# Altium schematic symbol library WPME-CDIP.SchLib: 6 symbols
Pins are listed as number, name and electrical type; pins without a type are passive.

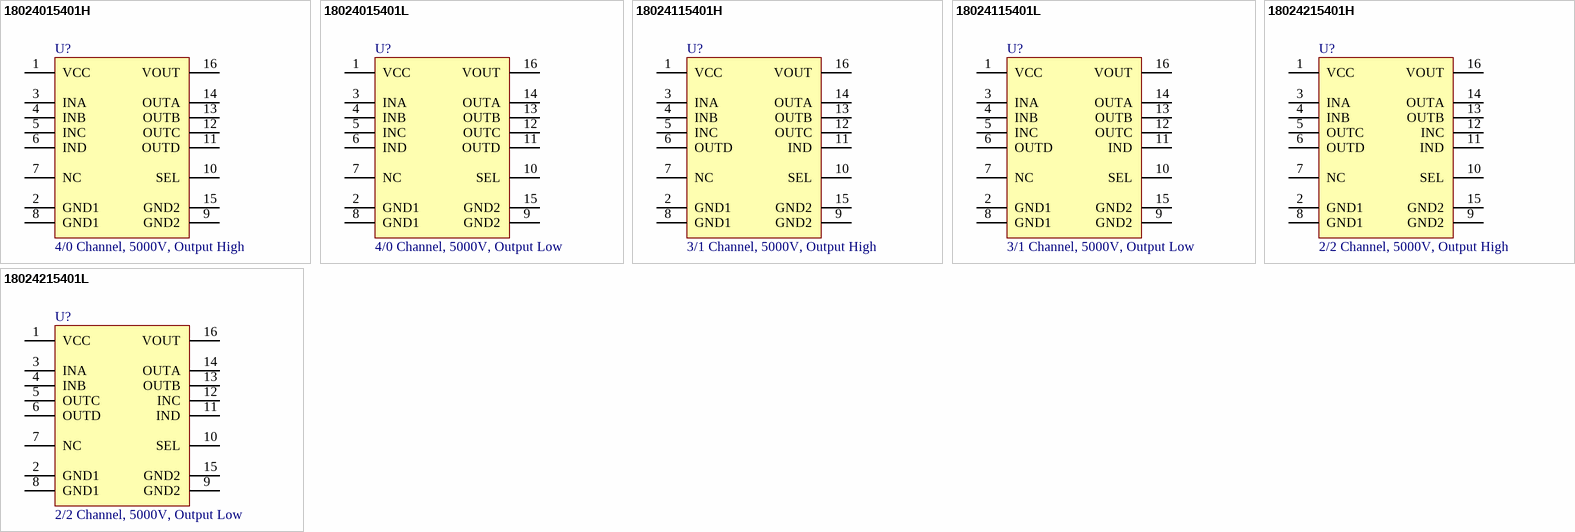
[diagram p0: symbols 18024015401H to 18024215401L]

## 18024015401H
designator U?, comment 4/0 Channel, 5000V, Output High
WPME-CDIP Capacitive Digital Isolator Powered, SMT, SOIC-16WB, 4/0 Channel, 5000V, Output High; Manufacturer Part Number: 18024015401H; Manufacturer: Wurth Elektronik; Common Mode Transient Immunity: 150kV/us; Data Rate: 100Mbps; Isolation Voltage: 5000V (RMS); Operating Supply Voltage Min: 3.15V; Operating Supply Voltage Max: 5.5V; Propagation Delay: 10ns; Category: Digital Isolator; Match Code: WPME-CDIP; ComponentLink1Description: Website Link; ComponentLink1URL: https://www.we-online.com/redexpert/article/18024015401H?ad; ComponentLink2Description: Datasheet Link; ComponentLink2URL: https://www.we-online.com/redexpert/spec/18024015401H?ad; Mount: Surface Mount; Min Operating Temperature: -40°C; Max Operating Temperature: 125°C; Packaging: Tape and Reel; Case/Size Code: SOIC-16WB; Length: 10.3mm; Width: 7.5mm; Height: 2.5mm; Channel Configuration: 4/0; Default Output: High
footprint WPME-CDIP_SOIC-16WB
pins: 1 VCC, 2 GND1, 3 INA, 4 INB, 5 INC, 6 IND, 7 NC, 8 GND1, 9 GND2, 10 SEL, 11 OUTD, 12 OUTC, 13 OUTB, 14 OUTA, 15 GND2, 16 VOUT

## 18024015401L
designator U?, comment 4/0 Channel, 5000V, Output Low
WPME-CDIP Capacitive Digital Isolator Powered, SMT, SOIC-16WB, 4/0 Channel, 5000V, Output Low; Manufacturer Part Number: 18024015401L; Manufacturer: Wurth Elektronik; Common Mode Transient Immunity: 150kV/us; Data Rate: 100Mbps; Isolation Voltage: 5000V (RMS); Operating Supply Voltage Min: 3.15V; Operating Supply Voltage Max: 5.5V; Propagation Delay: 10ns; Category: Digital Isolator; Match Code: WPME-CDIP; ComponentLink1Description: Website Link; ComponentLink1URL: https://www.we-online.com/redexpert/article/18024015401L?ad; ComponentLink2Description: Datasheet Link; ComponentLink2URL: https://www.we-online.com/redexpert/spec/18024015401L?ad; Mount: Surface Mount; Min Operating Temperature: -40°C; Max Operating Temperature: 125°C; Packaging: Tape and Reel; Case/Size Code: SOIC-16WB; Length: 10.3mm; Width: 7.5mm; Height: 2.5mm; Channel Configuration: 4/0; Default Output: Low
footprint WPME-CDIP_SOIC-16WB
pins: 1 VCC, 2 GND1, 3 INA, 4 INB, 5 INC, 6 IND, 7 NC, 8 GND1, 9 GND2, 10 SEL, 11 OUTD, 12 OUTC, 13 OUTB, 14 OUTA, 15 GND2, 16 VOUT

## 18024115401H
designator U?, comment 3/1 Channel, 5000V, Output High
WPME-CDIP Capacitive Digital Isolator Powered, SMT, SOIC-16WB, 3/1 Channel, 5000V, Output High; Manufacturer Part Number: 18024115401H; Manufacturer: Wurth Elektronik; Common Mode Transient Immunity: 150kV/us; Data Rate: 100Mbps; Isolation Voltage: 5000V (RMS); Operating Supply Voltage Min: 3.15V; Operating Supply Voltage Max: 5.5V; Propagation Delay: 10ns; Category: Digital Isolator; Match Code: WPME-CDIP; ComponentLink1Description: Website Link; ComponentLink1URL: https://www.we-online.com/redexpert/article/18024115401H?ad; ComponentLink2Description: Datasheet Link; ComponentLink2URL: https://www.we-online.com/redexpert/spec/18024115401H?ad; Mount: Surface Mount; Min Operating Temperature: -40°C; Max Operating Temperature: 125°C; Packaging: Tape and Reel; Case/Size Code: SOIC-16WB; Length: 10.3mm; Width: 7.5mm; Height: 2.5mm; Channel Configuration: 3/1; Default Output: High
footprint WPME-CDIP_SOIC-16WB
pins: 1 VCC, 2 GND1, 3 INA, 4 INB, 5 INC, 6 OUTD, 7 NC, 8 GND1, 9 GND2, 10 SEL, 11 IND, 12 OUTC, 13 OUTB, 14 OUTA, 15 GND2, 16 VOUT

## 18024115401L
designator U?, comment 3/1 Channel, 5000V, Output Low
WPME-CDIP Capacitive Digital Isolator Powered, SMT, SOIC-16WB, 3/1 Channel, 5000V, Output Low; Manufacturer Part Number: 18024115401L; Manufacturer: Wurth Elektronik; Common Mode Transient Immunity: 150kV/us; Data Rate: 100Mbps; Isolation Voltage: 5000V (RMS); Operating Supply Voltage Min: 3.15V; Operating Supply Voltage Max: 5.5V; Propagation Delay: 10ns; Category: Digital Isolator; Match Code: WPME-CDIP; ComponentLink1Description: Website Link; ComponentLink1URL: https://www.we-online.com/redexpert/article/18024115401L?ad; ComponentLink2Description: Datasheet Link; ComponentLink2URL: https://www.we-online.com/redexpert/spec/18024115401L?ad; Mount: Surface Mount; Min Operating Temperature: -40°C; Max Operating Temperature: 125°C; Packaging: Tape and Reel; Case/Size Code: SOIC-16WB; Length: 10.3mm; Width: 7.5mm; Height: 2.5mm; Channel Configuration: 3/1; Default Output: Low
footprint WPME-CDIP_SOIC-16WB
pins: 1 VCC, 2 GND1, 3 INA, 4 INB, 5 INC, 6 OUTD, 7 NC, 8 GND1, 9 GND2, 10 SEL, 11 IND, 12 OUTC, 13 OUTB, 14 OUTA, 15 GND2, 16 VOUT

## 18024215401H
designator U?, comment 2/2 Channel, 5000V, Output High
WPME-CDIP Capacitive Digital Isolator Powered, SMT, SOIC-16WB, 2/2 Channel, 5000V, Output High; Manufacturer Part Number: 18024215401H; Manufacturer: Wurth Elektronik; Common Mode Transient Immunity: 150kV/us; Data Rate: 100Mbps; Isolation Voltage: 5000V (RMS); Operating Supply Voltage Min: 3.15V; Operating Supply Voltage Max: 5.5V; Propagation Delay: 10ns; Category: Digital Isolator; Match Code: WPME-CDIP; ComponentLink1Description: Website Link; ComponentLink1URL: https://www.we-online.com/redexpert/article/18024215401H?ad; ComponentLink2Description: Datasheet Link; ComponentLink2URL: https://www.we-online.com/redexpert/spec/18024215401H?ad; Mount: Surface Mount; Min Operating Temperature: -40°C; Max Operating Temperature: 125°C; Packaging: Tape and Reel; Case/Size Code: SOIC-16WB; Length: 10.3mm; Width: 7.5mm; Height: 2.5mm; Channel Configuration: 2/2; Default Output: High
footprint WPME-CDIP_SOIC-16WB
pins: 1 VCC, 2 GND1, 3 INA, 4 INB, 5 OUTC, 6 OUTD, 7 NC, 8 GND1, 9 GND2, 10 SEL, 11 IND, 12 INC, 13 OUTB, 14 OUTA, 15 GND2, 16 VOUT

## 18024215401L
designator U?, comment 2/2 Channel, 5000V, Output Low
WPME-CDIP Capacitive Digital Isolator Powered, SMT, SOIC-16WB, 2/2 Channel, 5000V, Output Low; Manufacturer Part Number: 18024215401L; Manufacturer: Wurth Elektronik; Common Mode Transient Immunity: 150kV/us; Data Rate: 100Mbps; Isolation Voltage: 5000V (RMS); Operating Supply Voltage Min: 3.15V; Operating Supply Voltage Max: 5.5V; Propagation Delay: 10ns; Category: Digital Isolator; Match Code: WPME-CDIP; ComponentLink1Description: Website Link; ComponentLink1URL: https://www.we-online.com/redexpert/article/18024215401L?ad; ComponentLink2Description: Datasheet Link; ComponentLink2URL: https://www.we-online.com/redexpert/spec/18024215401L?ad; Mount: Surface Mount; Min Operating Temperature: -40°C; Max Operating Temperature: 125°C; Packaging: Tape and Reel; Case/Size Code: SOIC-16WB; Length: 10.3mm; Width: 7.5mm; Height: 2.5mm; Channel Configuration: 2/2; Default Output: Low
footprint WPME-CDIP_SOIC-16WB
pins: 1 VCC, 2 GND1, 3 INA, 4 INB, 5 OUTC, 6 OUTD, 7 NC, 8 GND1, 9 GND2, 10 SEL, 11 IND, 12 INC, 13 OUTB, 14 OUTA, 15 GND2, 16 VOUT